# Altium footprint library packages.PcbLib: 34 footprints (part 3 of 3)
Each footprint in its own frame and in the unit in brackets; x right, y up, seen from the top. Pads: shape width x height; smd on the part's side, far side on the other; paste and mask are expansions set on the pad; w line width, h text height; cw(c..) or ccw(c..) is an arc to the next point about the centre after c.
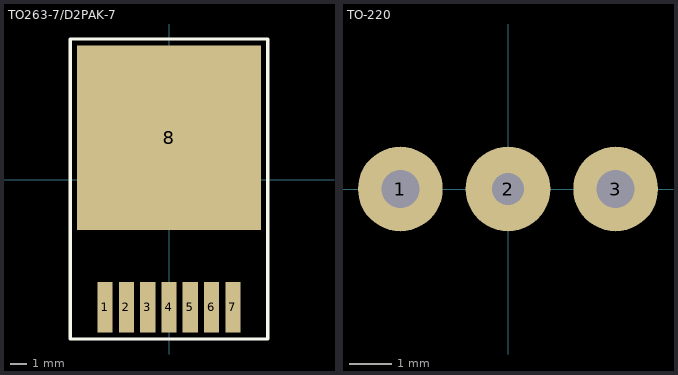
[diagram p2: the footprints below, top view; thin cyan lines are the x and y axes]

## TO263-7/D2PAK-7 [mm] "TO263/D2PAK package, 7 pins version"
height 4.6
pads (8):
  rect 0.9x3 smd mask+0.1: 1(-3.81,-7.6) 2(-2.54,-7.6) 3(-1.27,-7.6) 4(0,-7.6) 5(1.27,-7.6) 6(2.54,-7.6) 7(3.81,-7.6)
  rect 11x11 smd mask+0.1: 8(0,2.5)
Top Overlay:
  lines w0.2: -5.9,-9.5 -5.9,8.4 5.9,8.4 5.9,-9.5 -5.9,-9.5
3D body "TO263-7-1.stp": height 4.22, standoff 0, extent -4.911,-8.6 4.911,6.451

## TO-220 [mm]
pads (3):
  round 2 hole 0.9: 1(-2.54,0) 3(2.54,0)
  round 2 hole 0.762: 2(0,0)
3D body "TIP41C.stp": height 27.6, standoff -1.6, extent -5.15,-2.193 5.15,2.25